# EAGLE library part PCA9698DGG (library PCA9698DGG)
Dispositifs d'extension E/S 40 I2C 1 MHz 56-TSSOP, I2C, 2,3V ~ 5,5V, -40C ~ 85C Source: Datasheet <https://www.nxp.com/docs/en/data-sheet/PCA9698.pdf>
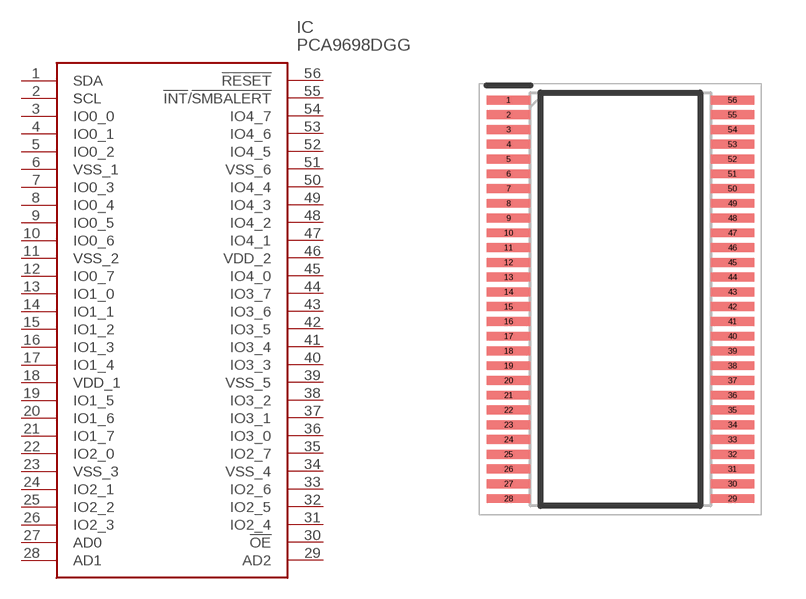
[diagram p0: symbol with the pads of SOP50P810X120-56N; footprint SOP50P810X120-56N]

Designator prefix IC

## PCA9698DGG (Description: Dispositifs d'extension E/S 40 I2C 1 MHz 56-TSSOP, I2C, 2,3V ~ 5,5V, -40C ~ 85C; Height: 1.2mm; Manufacturer_Name: NXP; Manufacturer_Part_Number: PCA9698DGG; Mouser_Part_Number: 771-PCA9698DGG; Mouser_Price-Stock: https://www.mouser.co.uk/ProductDetail/NXP-Semiconductors/PCA9698DGG?qs=KBAwV6Cvgt2rmRSY%2F7ErlQ%3D%3D)  [SOP50P810X120-56N]
1  SDA
2  SCL
3  IO0_0
4  IO0_1
5  IO0_2
6  VSS_1
7  IO0_3
8  IO0_4
9  IO0_5
10  IO0_6
11  VSS_2
12  IO0_7
13  IO1_0
14  IO1_1
15  IO1_2
16  IO1_3
17  IO1_4
18  VDD_1
19  IO1_5
20  IO1_6
21  IO1_7
22  IO2_0
23  VSS_3
24  IO2_1
25  IO2_2
26  IO2_3
27  AD0
28  AD1
29  AD2
30  !OE
31  IO2_4
32  IO2_5
33  IO2_6
34  VSS_4
35  IO2_7
36  IO3_0
37  IO3_1
38  IO3_2
39  VSS_5
40  IO3_3
41  IO3_4
42  IO3_5
43  IO3_6
44  IO3_7
45  IO4_0
46  VDD_2
47  IO4_1
48  IO4_2
49  IO4_3
50  IO4_4
51  VSS_6
52  IO4_5
53  IO4_6
54  IO4_7
55  !INT!/!SMBALERT
56  !RESET

## Footprint SOP50P810X120-56N (pad centres in mm)
SOT364-1
smd 1.475 x 0.3: 1 -3.788,6.75; 2 -3.788,6.25; 3 -3.788,5.75; 4 -3.788,5.25; 5 -3.788,4.75; 6 -3.788,4.25; 7 -3.788,3.75; 8 -3.788,3.25; 9 -3.788,2.75; 10 -3.788,2.25; 11 -3.788,1.75; 12 -3.788,1.25; 13 -3.788,0.75; 14 -3.788,0.25; 15 -3.788,-0.25; 16 -3.788,-0.75; 17 -3.788,-1.25; 18 -3.788,-1.75; 19 -3.788,-2.25; 20 -3.788,-2.75; 21 -3.788,-3.25; 22 -3.788,-3.75; 23 -3.788,-4.25; 24 -3.788,-4.75; 25 -3.788,-5.25; 26 -3.788,-5.75; 27 -3.788,-6.25; 28 -3.788,-6.75; 29 3.788,-6.75; 30 3.788,-6.25; 31 3.788,-5.75; 32 3.788,-5.25; 33 3.788,-4.75; 34 3.788,-4.25; 35 3.788,-3.75; 36 3.788,-3.25; 37 3.788,-2.75; 38 3.788,-2.25; 39 3.788,-1.75; 40 3.788,-1.25; 41 3.788,-0.75; 42 3.788,-0.25; 43 3.788,0.25; 44 3.788,0.75; 45 3.788,1.25; 46 3.788,1.75; 47 3.788,2.25; 48 3.788,2.75; 49 3.788,3.25; 50 3.788,3.75; 51 3.788,4.25; 52 3.788,4.75; 53 3.788,5.25; 54 3.788,5.75; 55 3.788,6.25; 56 3.788,6.75